# Altium schematic symbol library SCH - MCU - STM32 - ST MICROELECTRONICS STM32F303Z(D-E)TX LQFP144.SchLib: 1 symbol
Pins are listed as number, name and electrical type; pins without a type are passive.

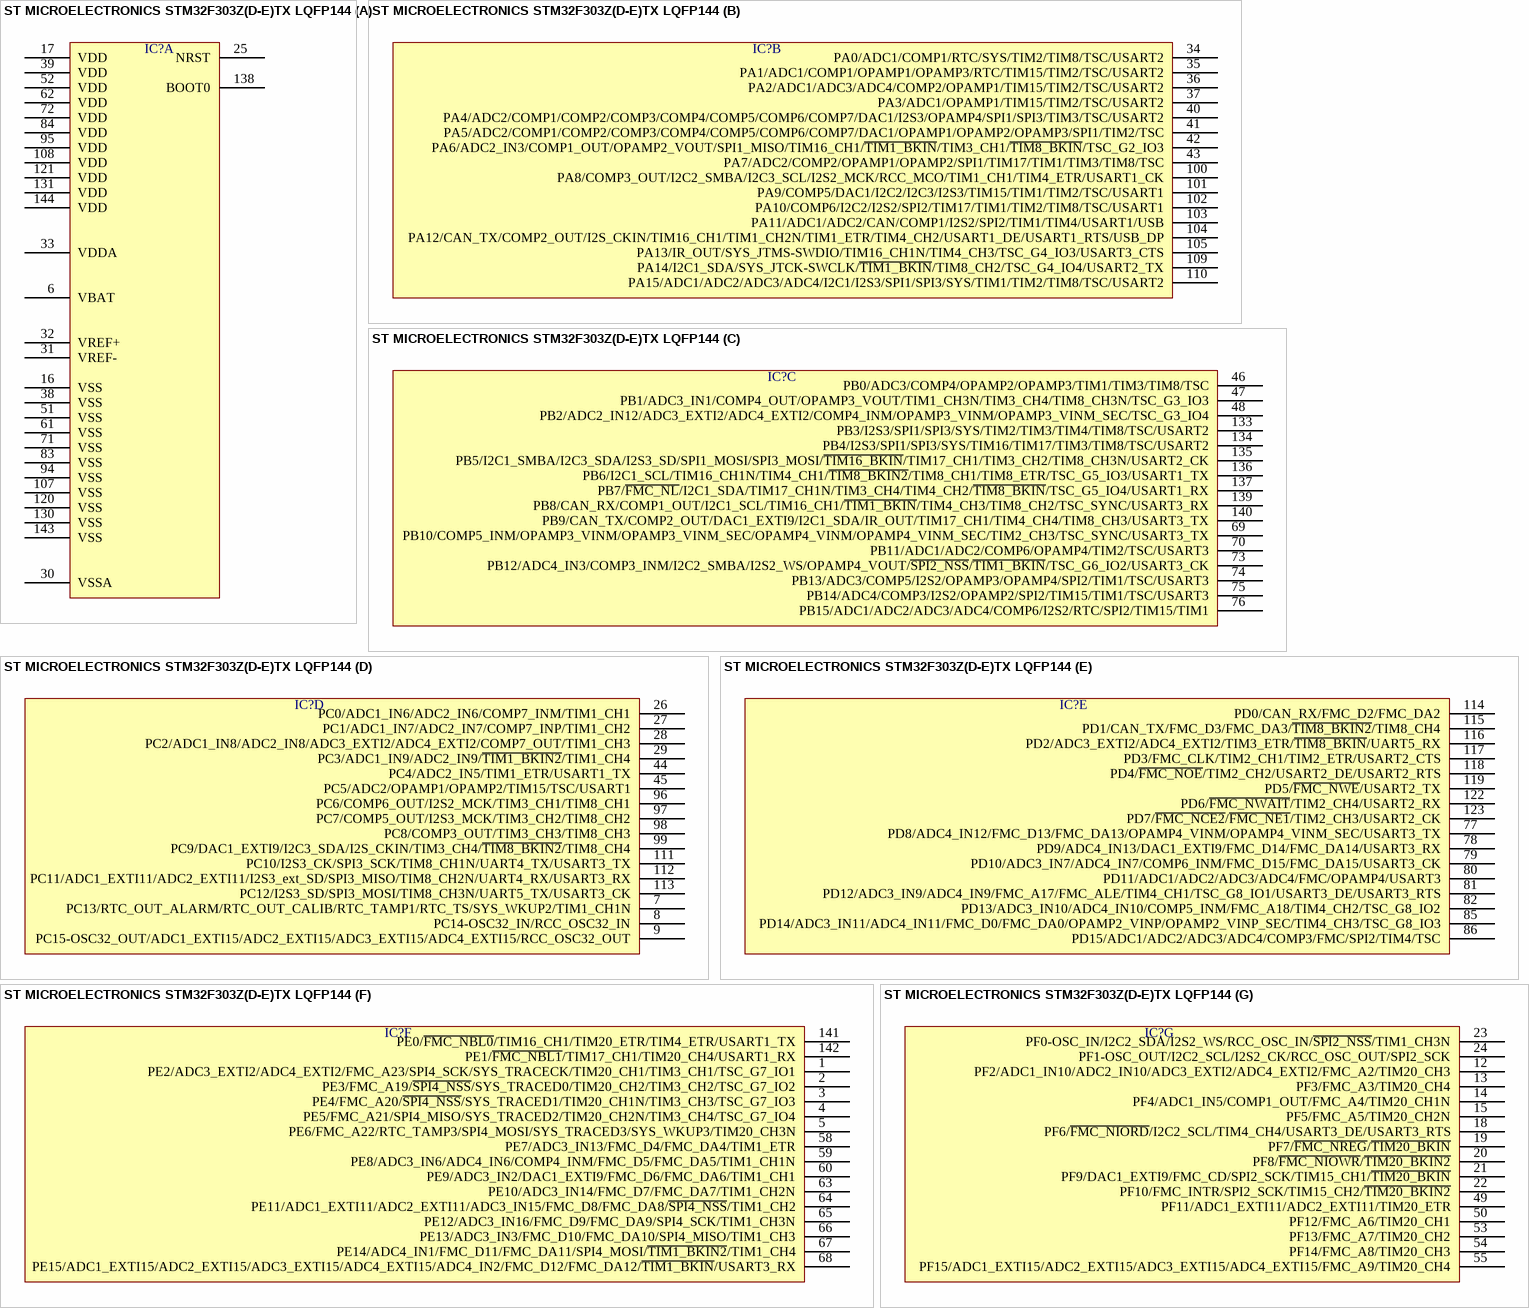
[diagram p0: symbol ST MICROELECTRONICS STM32F303Z(D-E)TX LQFP144]

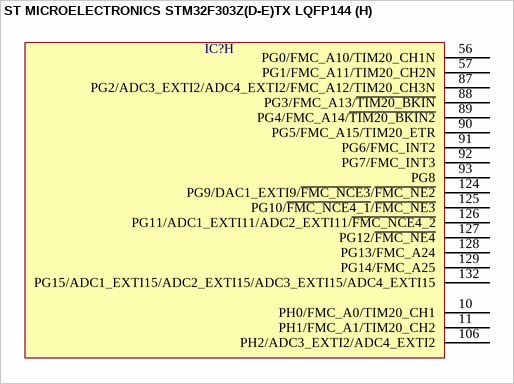
[diagram p1: symbol ST MICROELECTRONICS STM32F303Z(D-E)TX LQFP144]

## ST MICROELECTRONICS STM32F303Z(D-E)TX LQFP144
designator IC?  (value not drawn)
part A pins: 6 VBAT, 16 VSS, 17 VDD, 25 NRST, 30 VSSA, 31 VREF-, 32 VREF+, 33 VDDA, 38 VSS, 39 VDD, 51 VSS, 52 VDD, 61 VSS, 62 VDD, 71 VSS, 72 VDD, 83 VSS, 84 VDD, 94 VSS, 95 VDD, 107 VSS, 108 VDD, 120 VSS, 121 VDD, 130 VSS, 131 VDD, 138 BOOT0, 143 VSS, 144 VDD
part B pins: 34 PA0/ADC1/COMP1/RTC/SYS/TIM2/TIM8/TSC/USART2, 35 PA1/ADC1/COMP1/OPAMP1/OPAMP3/RTC/TIM15/TIM2/TSC/USART2, 36 PA2/ADC1/ADC3/ADC4/COMP2/OPAMP1/TIM15/TIM2/TSC/USART2, 37 PA3/ADC1/OPAMP1/TIM15/TIM2/TSC/USART2, 40 PA4/ADC2/COMP1/COMP2/COMP3/COMP4/COMP5/COMP6/COMP7/DAC1/I2S3/OPAMP4/SPI1/SPI3/TIM3/TSC/USART2, 41 PA5/ADC2/COMP1/COMP2/COMP3/COMP4/COMP5/COMP6/COMP7/DAC1/OPAMP1/OPAMP2/OPAMP3/SPI1/TIM2/TSC, 42 PA6/ADC2_IN3/COMP1_OUT/OPAMP2_VOUT/SPI1_MISO/TIM16_CH1/~{TIM1_BKIN}/TIM3_CH1/~{TIM8_BKIN}/TSC_G2_IO3, 43 PA7/ADC2/COMP2/OPAMP1/OPAMP2/SPI1/TIM17/TIM1/TIM3/TIM8/TSC, 100 PA8/COMP3_OUT/I2C2_SMBA/I2C3_SCL/I2S2_MCK/RCC_MCO/TIM1_CH1/TIM4_ETR/USART1_CK, 101 PA9/COMP5/DAC1/I2C2/I2C3/I2S3/TIM15/TIM1/TIM2/TSC/USART1, 102 PA10/COMP6/I2C2/I2S2/SPI2/TIM17/TIM1/TIM2/TIM8/TSC/USART1, 103 PA11/ADC1/ADC2/CAN/COMP1/I2S2/SPI2/TIM1/TIM4/USART1/USB, 104 PA12/CAN_TX/COMP2_OUT/I2S_CKIN/TIM16_CH1/TIM1_CH2N/TIM1_ETR/TIM4_CH2/USART1_DE/USART1_RTS/USB_DP, 105 PA13/IR_OUT/SYS_JTMS-SWDIO/TIM16_CH1N/TIM4_CH3/TSC_G4_IO3/USART3_CTS, 109 PA14/I2C1_SDA/SYS_JTCK-SWCLK/~{TIM1_BKIN}/TIM8_CH2/TSC_G4_IO4/USART2_TX, 110 PA15/ADC1/ADC2/ADC3/ADC4/I2C1/I2S3/SPI1/SPI3/SYS/TIM1/TIM2/TIM8/TSC/USART2
part C pins: 46 PB0/ADC3/COMP4/OPAMP2/OPAMP3/TIM1/TIM3/TIM8/TSC, 47 PB1/ADC3_IN1/COMP4_OUT/OPAMP3_VOUT/TIM1_CH3N/TIM3_CH4/TIM8_CH3N/TSC_G3_IO3, 48 PB2/ADC2_IN12/ADC3_EXTI2/ADC4_EXTI2/COMP4_INM/OPAMP3_VINM/OPAMP3_VINM_SEC/TSC_G3_IO4, 69 PB10/COMP5_INM/OPAMP3_VINM/OPAMP3_VINM_SEC/OPAMP4_VINM/OPAMP4_VINM_SEC/TIM2_CH3/TSC_SYNC/USART3_TX, 70 PB11/ADC1/ADC2/COMP6/OPAMP4/TIM2/TSC/USART3, 73 PB12/ADC4_IN3/COMP3_INM/I2C2_SMBA/I2S2_WS/OPAMP4_VOUT/~{SPI2_NSS}/~{TIM1_BKIN}/TSC_G6_IO2/USART3_CK, 74 PB13/ADC3/COMP5/I2S2/OPAMP3/OPAMP4/SPI2/TIM1/TSC/USART3, 75 PB14/ADC4/COMP3/I2S2/OPAMP2/SPI2/TIM15/TIM1/TSC/USART3, 76 PB15/ADC1/ADC2/ADC3/ADC4/COMP6/I2S2/RTC/SPI2/TIM15/TIM1, 133 PB3/I2S3/SPI1/SPI3/SYS/TIM2/TIM3/TIM4/TIM8/TSC/USART2, 134 PB4/I2S3/SPI1/SPI3/SYS/TIM16/TIM17/TIM3/TIM8/TSC/USART2, 135 PB5/I2C1_SMBA/I2C3_SDA/I2S3_SD/SPI1_MOSI/SPI3_MOSI/~{TIM16_BKIN}/TIM17_CH1/TIM3_CH2/TIM8_CH3N/USART2_CK, 136 PB6/I2C1_SCL/TIM16_CH1N/TIM4_CH1/~{TIM8_BKIN2}/TIM8_CH1/TIM8_ETR/TSC_G5_IO3/USART1_TX, 137 PB7/~{FMC_NL}/I2C1_SDA/TIM17_CH1N/TIM3_CH4/TIM4_CH2/~{TIM8_BKIN}/TSC_G5_IO4/USART1_RX, 139 PB8/CAN_RX/COMP1_OUT/I2C1_SCL/TIM16_CH1/~{TIM1_BKIN}/TIM4_CH3/TIM8_CH2/TSC_SYNC/USART3_RX, 140 PB9/CAN_TX/COMP2_OUT/DAC1_EXTI9/I2C1_SDA/IR_OUT/TIM17_CH1/TIM4_CH4/TIM8_CH3/USART3_TX
part D pins: 7 PC13/RTC_OUT_ALARM/RTC_OUT_CALIB/RTC_TAMP1/RTC_TS/SYS_WKUP2/TIM1_CH1N, 8 PC14-OSC32_IN/RCC_OSC32_IN, 9 PC15-OSC32_OUT/ADC1_EXTI15/ADC2_EXTI15/ADC3_EXTI15/ADC4_EXTI15/RCC_OSC32_OUT, 26 PC0/ADC1_IN6/ADC2_IN6/COMP7_INM/TIM1_CH1, 27 PC1/ADC1_IN7/ADC2_IN7/COMP7_INP/TIM1_CH2, 28 PC2/ADC1_IN8/ADC2_IN8/ADC3_EXTI2/ADC4_EXTI2/COMP7_OUT/TIM1_CH3, 29 PC3/ADC1_IN9/ADC2_IN9/~{TIM1_BKIN2}/TIM1_CH4, 44 PC4/ADC2_IN5/TIM1_ETR/USART1_TX, 45 PC5/ADC2/OPAMP1/OPAMP2/TIM15/TSC/USART1, 96 PC6/COMP6_OUT/I2S2_MCK/TIM3_CH1/TIM8_CH1, 97 PC7/COMP5_OUT/I2S3_MCK/TIM3_CH2/TIM8_CH2, 98 PC8/COMP3_OUT/TIM3_CH3/TIM8_CH3, 99 PC9/DAC1_EXTI9/I2C3_SDA/I2S_CKIN/TIM3_CH4/~{TIM8_BKIN2}/TIM8_CH4, 111 PC10/I2S3_CK/SPI3_SCK/TIM8_CH1N/UART4_TX/USART3_TX, 112 PC11/ADC1_EXTI11/ADC2_EXTI11/I2S3_ext_SD/SPI3_MISO/TIM8_CH2N/UART4_RX/USART3_RX, 113 PC12/I2S3_SD/SPI3_MOSI/TIM8_CH3N/UART5_TX/USART3_CK
part E pins: 77 PD8/ADC4_IN12/FMC_D13/FMC_DA13/OPAMP4_VINM/OPAMP4_VINM_SEC/USART3_TX, 78 PD9/ADC4_IN13/DAC1_EXTI9/FMC_D14/FMC_DA14/USART3_RX, 79 PD10/ADC3_IN7/ADC4_IN7/COMP6_INM/FMC_D15/FMC_DA15/USART3_CK, 80 PD11/ADC1/ADC2/ADC3/ADC4/FMC/OPAMP4/USART3, 81 PD12/ADC3_IN9/ADC4_IN9/FMC_A17/FMC_ALE/TIM4_CH1/TSC_G8_IO1/USART3_DE/USART3_RTS, 82 PD13/ADC3_IN10/ADC4_IN10/COMP5_INM/FMC_A18/TIM4_CH2/TSC_G8_IO2, 85 PD14/ADC3_IN11/ADC4_IN11/FMC_D0/FMC_DA0/OPAMP2_VINP/OPAMP2_VINP_SEC/TIM4_CH3/TSC_G8_IO3, 86 PD15/ADC1/ADC2/ADC3/ADC4/COMP3/FMC/SPI2/TIM4/TSC, 114 PD0/CAN_RX/FMC_D2/FMC_DA2, 115 PD1/CAN_TX/FMC_D3/FMC_DA3/~{TIM8_BKIN2}/TIM8_CH4, 116 PD2/ADC3_EXTI2/ADC4_EXTI2/TIM3_ETR/~{TIM8_BKIN}/UART5_RX, 117 PD3/FMC_CLK/TIM2_CH1/TIM2_ETR/USART2_CTS, 118 PD4/~{FMC_NOE}/TIM2_CH2/USART2_DE/USART2_RTS, 119 PD5/~{FMC_NWE}/USART2_TX, 122 PD6/~{FMC_NWAIT}/TIM2_CH4/USART2_RX, 123 PD7/~{FMC_NCE2}/~{FMC_NE1}/TIM2_CH3/USART2_CK
part F pins: 1 PE2/ADC3_EXTI2/ADC4_EXTI2/FMC_A23/SPI4_SCK/SYS_TRACECK/TIM20_CH1/TIM3_CH1/TSC_G7_IO1, 2 PE3/FMC_A19/~{SPI4_NSS}/SYS_TRACED0/TIM20_CH2/TIM3_CH2/TSC_G7_IO2, 3 PE4/FMC_A20/~{SPI4_NSS}/SYS_TRACED1/TIM20_CH1N/TIM3_CH3/TSC_G7_IO3, 4 PE5/FMC_A21/SPI4_MISO/SYS_TRACED2/TIM20_CH2N/TIM3_CH4/TSC_G7_IO4, 5 PE6/FMC_A22/RTC_TAMP3/SPI4_MOSI/SYS_TRACED3/SYS_WKUP3/TIM20_CH3N, 58 PE7/ADC3_IN13/FMC_D4/FMC_DA4/TIM1_ETR, 59 PE8/ADC3_IN6/ADC4_IN6/COMP4_INM/FMC_D5/FMC_DA5/TIM1_CH1N, 60 PE9/ADC3_IN2/DAC1_EXTI9/FMC_D6/FMC_DA6/TIM1_CH1, 63 PE10/ADC3_IN14/FMC_D7/FMC_DA7/TIM1_CH2N, 64 PE11/ADC1_EXTI11/ADC2_EXTI11/ADC3_IN15/FMC_D8/FMC_DA8/~{SPI4_NSS}/TIM1_CH2, 65 PE12/ADC3_IN16/FMC_D9/FMC_DA9/SPI4_SCK/TIM1_CH3N, 66 PE13/ADC3_IN3/FMC_D10/FMC_DA10/SPI4_MISO/TIM1_CH3, 67 PE14/ADC4_IN1/FMC_D11/FMC_DA11/SPI4_MOSI/~{TIM1_BKIN2}/TIM1_CH4, 68 PE15/ADC1_EXTI15/ADC2_EXTI15/ADC3_EXTI15/ADC4_EXTI15/ADC4_IN2/FMC_D12/FMC_DA12/~{TIM1_BKIN}/USART3_RX, 141 PE0/~{FMC_NBL0}/TIM16_CH1/TIM20_ETR/TIM4_ETR/USART1_TX, 142 PE1/~{FMC_NBL1}/TIM17_CH1/TIM20_CH4/USART1_RX
part G pins: 12 PF2/ADC1_IN10/ADC2_IN10/ADC3_EXTI2/ADC4_EXTI2/FMC_A2/TIM20_CH3, 13 PF3/FMC_A3/TIM20_CH4, 14 PF4/ADC1_IN5/COMP1_OUT/FMC_A4/TIM20_CH1N, 15 PF5/FMC_A5/TIM20_CH2N, 18 PF6/~{FMC_NIORD}/I2C2_SCL/TIM4_CH4/USART3_DE/USART3_RTS, 19 PF7/~{FMC_NREG}/~{TIM20_BKIN}, 20 PF8/~{FMC_NIOWR}/~{TIM20_BKIN2}, 21 PF9/DAC1_EXTI9/FMC_CD/SPI2_SCK/TIM15_CH1/~{TIM20_BKIN}, 22 PF10/FMC_INTR/SPI2_SCK/TIM15_CH2/~{TIM20_BKIN2}, 23 PF0-OSC_IN/I2C2_SDA/I2S2_WS/RCC_OSC_IN/~{SPI2_NSS}/TIM1_CH3N, 24 PF1-OSC_OUT/I2C2_SCL/I2S2_CK/RCC_OSC_OUT/SPI2_SCK, 49 PF11/ADC1_EXTI11/ADC2_EXTI11/TIM20_ETR, 50 PF12/FMC_A6/TIM20_CH1, 53 PF13/FMC_A7/TIM20_CH2, 54 PF14/FMC_A8/TIM20_CH3, 55 PF15/ADC1_EXTI15/ADC2_EXTI15/ADC3_EXTI15/ADC4_EXTI15/FMC_A9/TIM20_CH4
part H pins: 10 PH0/FMC_A0/TIM20_CH1, 11 PH1/FMC_A1/TIM20_CH2, 56 PG0/FMC_A10/TIM20_CH1N, 57 PG1/FMC_A11/TIM20_CH2N, 87 PG2/ADC3_EXTI2/ADC4_EXTI2/FMC_A12/TIM20_CH3N, 88 PG3/FMC_A13/~{TIM20_BKIN}, 89 PG4/FMC_A14/~{TIM20_BKIN2}, 90 PG5/FMC_A15/TIM20_ETR, 91 PG6/FMC_INT2, 92 PG7/FMC_INT3, 93 PG8, 106 PH2/ADC3_EXTI2/ADC4_EXTI2, 124 PG9/DAC1_EXTI9/~{FMC_NCE3}/~{FMC_NE2}, 125 PG10/~{FMC_NCE4_1}/~{FMC_NE3}, 126 PG11/ADC1_EXTI11/ADC2_EXTI11/~{FMC_NCE4_2}, 127 PG12/~{FMC_NE4}, 128 PG13/FMC_A24, 129 PG14/FMC_A25, 132 PG15/ADC1_EXTI15/ADC2_EXTI15/ADC3_EXTI15/ADC4_EXTI15